# Altium schematic symbol library Mofset.SchLib: 1 symbol
Pins are listed as number, name and electrical type; pins without a type are passive.

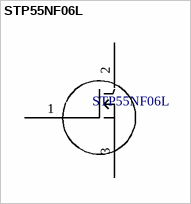
[diagram p0: symbol STP55NF06L]

## STP55NF06L
designator STP55NF06L  (value not drawn)
footprint STP55NF06L
pins: 1 "G", 2 "D", 3 "S"